# Altium schematic symbol library Schlib1.SchLib: 1 symbol
Pins are listed as number, name and electrical type; pins without a type are passive.

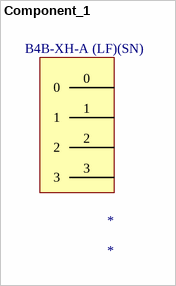
[diagram p0: symbol Component_1]

## Component_1
designator *  Supplier Part Number 1: B4B-XH-A (LF)(SN)
Supplier 1: Arrow Electronics
pins: 0, 1, 2, 3